# EAGLE library part SI4122DY (library ScottsLib)
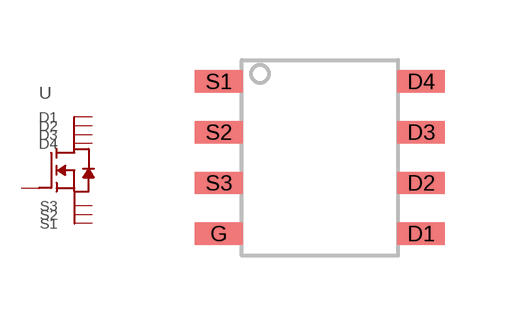
[diagram p1: symbol with the pads of SO-8; footprint SO-8]

Designator prefix -

## SI4122DY  [SO-8]
D1  D1  pas
D2  D2  pas
D3  D3  pas
D4  D4  pas
G  G  pas
S1  S1  pas
S2  S2  pas
S3  S3  pas

## Footprint SO-8 (pad centres in mm)
smd 1.194 x 0.559: D1 2.527,-1.9; D2 2.527,-0.63; D3 2.527,0.64; D4 2.527,1.91; G -2.527,-1.9; S1 -2.527,1.91; S2 -2.527,0.64; S3 -2.527,-0.63